# Altium schematic symbol library OLED12864.SchLib: 1 symbol
Pins are listed as number, name and electrical type; pins without a type are passive.

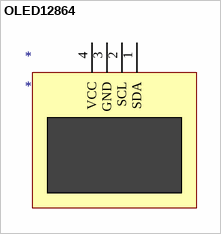
[diagram p0: symbol OLED12864]

## OLED12864
designator *
pins: 1 SDA, 2 SCL, 3 GND, 4 VCC